# Altium footprint library DC-005.PcbLib: 2 footprints
Each footprint in its own frame and in the unit in brackets; x right, y up, seen from the top. Pads: shape width x height; smd on the part's side, far side on the other; paste and mask are expansions set on the pad; w line width, h text height; cw(c..) or ccw(c..) is an arc to the next point about the centre after c.
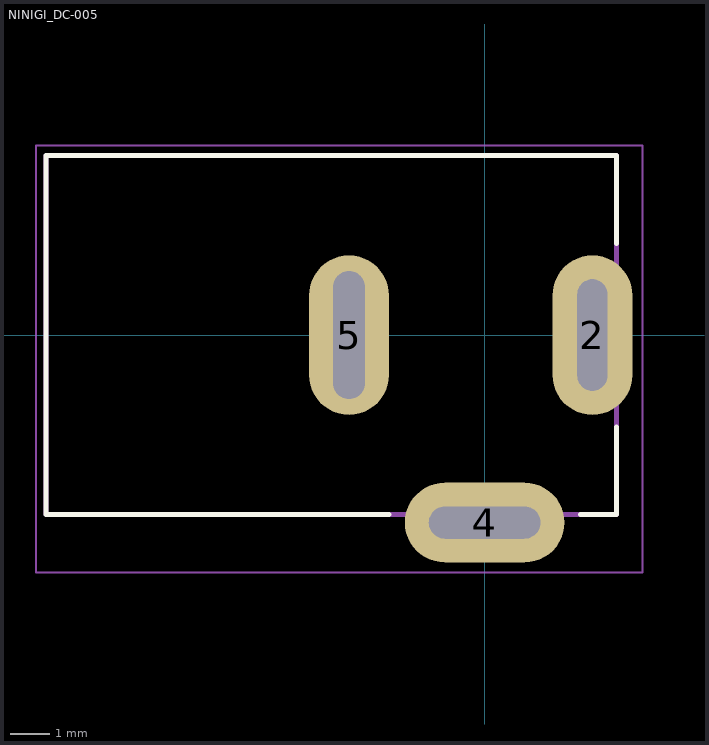
[diagram p0: the footprints below, top view; thin cyan lines are the x and y axes]

## NINIGI_DC-005 [mm]
pads (3):
  oval 2x4 hole 0.75 slot 2.794 at 90 deg: 2(2.7,0)
  oval 4x2 hole 0.8 slot 2.794 at 0 deg: 4(0,-4.7)
  oval 2x4 hole 0.801 slot 3.2 at 90 deg: 5(-3.4,0)
Top Overlay:
  lines w0.127: -2.4,-4.5 -11,-4.5 -11,4.5 3.3,4.5 3.3,2.3 ; 2.4,-4.5 3.3,-4.5 3.3,-2.3
Mechanical 1:
  lines w0: -3.775,-1.5 -3.025,-1.5 -3.025,1.5 -3.775,1.5 -3.775,-1.5 ; -1.25,-5.1 1.25,-5.1 1.25,-4.3 -1.25,-4.3 -1.25,-5.1 ; 2.325,-1.5 3.075,-1.5 3.075,1.5 2.325,1.5 2.325,-1.5
Mechanical 4:
  lines w0.127: -11,-4.5 3.3,-4.5 ; -11,-4.5 -11,4.5 ; -11,-4.5 3.3,-4.5 ; -11,-4.5 -11,4.5 ; -11,4.5 3.3,4.5 ; -11,4.5 3.3,4.5 ; 3.3,-4.5 3.3,4.5 ; 3.3,-4.5 3.3,4.5
Mechanical 16:
  lines w0.05: -11.25,-5.95 3.95,-5.95 3.95,4.75 -11.25,4.75 -11.25,-5.95

## PCBComponent_1 [mm]